# Altium footprint library Inductor_THT.PcbLib: 269 footprints (part 5 of 17)
Each footprint in its own frame and in the unit in brackets; x right, y up, seen from the top. Pads: shape width x height; smd on the part's side, far side on the other; paste and mask are expansions set on the pad; w line width, h text height; cw(c..) or ccw(c..) is an arc to the next point about the centre after c.
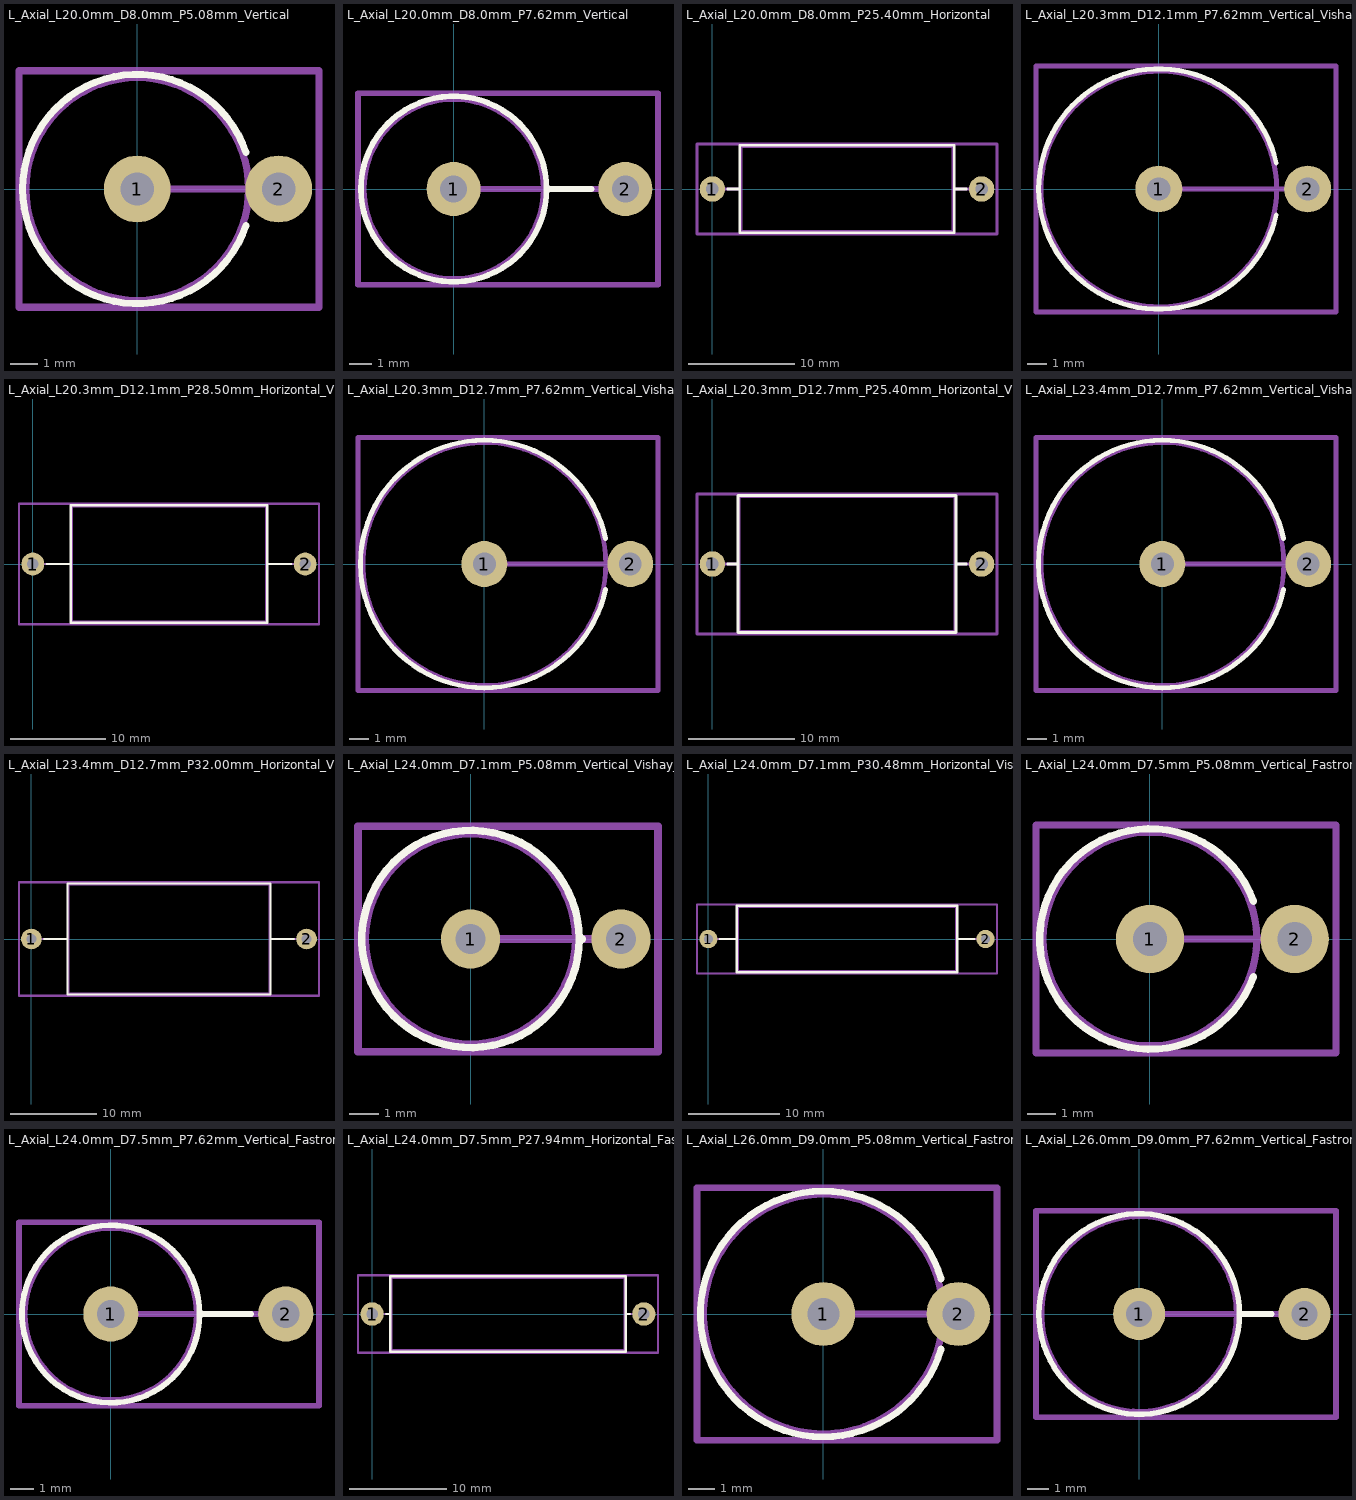
[diagram p4: the footprints below, top view; thin cyan lines are the x and y axes]

## L_Axial_L20.0mm_D8.0mm_P5.08mm_Vertical [mm]
pads (2):
  round 2.4 hole 1.2: 1(0,0) 2(5.08,0)
F.SilkS:
  lines w0.254: 3.903,-1.32 cw(c0,0) 3.903,1.32
Top Assembly:
  circle w0.254: c0,0 r4
  lines w0.254: 0,0 5.08,0
  text "'.Designator'" at -4.047,0.86 h1
Top Courtyard:
  lines w0.254: -4.25,-4.25 6.53,-4.25 6.53,4.25 -4.25,4.25 -4.25,-4.25
Top Designator:
  text ".Designator" at -6.478,-0.508 h1.52
3D body "L_Axial_L20.0mm_D8.0mm_P5.08mm_Vertical.step": height 23.25, standoff -3, extent -4,-4 5.526,4

## L_Axial_L20.0mm_D8.0mm_P7.62mm_Vertical [mm]
pads (2):
  round 2.4 hole 1.2: 1(0,0) 2(7.62,0)
F.SilkS:
  circle w0.254: c0,0 r4.12
  lines w0.254: 4.12,0 6.12,0
Top Assembly:
  circle w0.254: c0,0 r4
  lines w0.254: 0,0 7.62,0
  text "'.Designator'" at -4.047,0.86 h1
Top Courtyard:
  lines w0.254: -4.25,-4.25 9.07,-4.25 9.07,4.25 -4.25,4.25 -4.25,-4.25
Top Designator:
  text ".Designator" at -5.208,-0.508 h1.52
3D body "L_Axial_L20.0mm_D8.0mm_P7.62mm_Vertical.step": height 23.25, standoff -3, extent -4,-4 8.066,4

## L_Axial_L20.0mm_D8.0mm_P25.40mm_Horizontal [mm]
pads (2):
  round 2.4 hole 1.2: 1(0,0) 2(25.4,0)
F.SilkS:
  lines w0.254: 1.44,0 2.58,0 ; 22.82,0 23.96,0 ; 2.58,-4.12 22.82,-4.12 22.82,4.12 2.58,4.12 2.58,-4.12
Top Assembly:
  lines w0.254: 0,0 2.7,0 ; 22.7,0 25.4,0 ; 2.7,-4 22.7,-4 22.7,4 2.7,4 2.7,-4
  text "'.Designator'" at 8.653,-0.84 h1
Top Courtyard:
  lines w0.254: -1.45,-4.25 26.85,-4.25 26.85,4.25 -1.45,4.25 -1.45,-4.25
Top Designator:
  text ".Designator" at 5.082,-0.508 h1.52
3D body "L_Axial_L20.0mm_D8.0mm_P25.40mm_Horizontal.step": height 8.1, standoff -3, extent -0.446,-4 25.846,4

## L_Axial_L20.3mm_D12.1mm_P7.62mm_Vertical_Vishay_IHA-101 [mm]
pads (2):
  round 2.4 hole 1.2: 1(0,0) 2(7.62,0)
F.SilkS:
  lines w0.254: 6.012,-1.32 cw(c0,0) 6.012,1.32
Top Assembly:
  circle w0.254: c0,0 r6.035
  lines w0.254: 0,0 7.62,0
  text "'.Designator'" at -4.047,0.86 h1
Top Courtyard:
  lines w0.254: -6.29,-6.29 -6.29,6.29 9.07,6.29 9.07,-6.29 -6.29,-6.29
Top Designator:
  text ".Designator" at -6.228,-0.508 h1.52

## L_Axial_L20.3mm_D12.1mm_P28.50mm_Horizontal_Vishay_IHA-101 [mm]
pads (2):
  round 2.4 hole 1.2: 1(0,0) 2(28.5,0)
F.SilkS:
  lines w0.254: 1.44,0 3.97,0 ; 24.53,0 27.06,0 ; 3.97,-6.155 24.53,-6.155 24.53,6.155 3.97,6.155 3.97,-6.155
Top Assembly:
  lines w0.254: 0,0 4.09,0 ; 24.41,0 28.5,0 ; 4.09,-6.035 24.41,-6.035 24.41,6.035 4.09,6.035 4.09,-6.035
  text "'.Designator'" at 10.203,-0.84 h1
Top Courtyard:
  lines w0.254: -1.45,-6.29 29.95,-6.29 29.95,6.29 -1.45,6.29 -1.45,-6.29
Top Designator:
  text ".Designator" at 6.632,-0.508 h1.52

## L_Axial_L20.3mm_D12.7mm_P7.62mm_Vertical_Vishay_IHA-201 [mm]
pads (2):
  round 2.4 hole 1.2: 1(0,0) 2(7.62,0)
F.SilkS:
  lines w0.254: 6.334,-1.32 cw(c0,0) 6.334,1.32
Top Assembly:
  circle w0.254: c0,0 r6.35
  lines w0.254: 0,0 7.62,0
  text "'.Designator'" at -4.047,0.86 h1
Top Courtyard:
  lines w0.254: -6.6,-6.6 9.07,-6.6 9.07,6.6 -6.6,6.6 -6.6,-6.6
Top Designator:
  text ".Designator" at -6.383,-0.508 h1.52

## L_Axial_L20.3mm_D12.7mm_P25.40mm_Horizontal_Vishay_IHA-201 [mm]
pads (2):
  round 2.4 hole 1.2: 1(0,0) 2(25.4,0)
F.SilkS:
  lines w0.254: 1.44,0 2.42,0 ; 22.98,0 23.96,0 ; 2.42,-6.47 22.98,-6.47 22.98,6.47 2.42,6.47 2.42,-6.47
Top Assembly:
  lines w0.254: 0,0 2.54,0 ; 22.86,0 25.4,0 ; 2.54,-6.35 22.86,-6.35 22.86,6.35 2.54,6.35 2.54,-6.35
  text "'.Designator'" at 8.653,-0.84 h1
Top Courtyard:
  lines w0.254: -1.45,-6.6 26.85,-6.6 26.85,6.6 -1.45,6.6 -1.45,-6.6
Top Designator:
  text ".Designator" at 5.082,-0.508 h1.52

## L_Axial_L23.4mm_D12.7mm_P7.62mm_Vertical_Vishay_IHA-203 [mm]
pads (2):
  round 2.4 hole 1.2: 1(0,0) 2(7.62,0)
F.SilkS:
  lines w0.254: 6.334,-1.32 cw(c0,0) 6.334,1.32
Top Assembly:
  circle w0.254: c0,0 r6.35
  lines w0.254: 0,0 7.62,0
  text "'.Designator'" at -4.047,0.86 h1
Top Courtyard:
  lines w0.254: -6.6,-6.6 9.07,-6.6 9.07,6.6 -6.6,6.6 -6.6,-6.6
Top Designator:
  text ".Designator" at -6.383,-0.508 h1.52

## L_Axial_L23.4mm_D12.7mm_P32.00mm_Horizontal_Vishay_IHA-203 [mm]
pads (2):
  round 2.4 hole 1.2: 1(0,0) 2(32,0)
F.SilkS:
  lines w0.254: 1.44,0 4.195,0 ; 27.805,0 30.56,0 ; 4.195,-6.47 4.195,6.47 27.805,6.47 27.805,-6.47 4.195,-6.47
Top Assembly:
  lines w0.254: 0,0 4.315,0 ; 27.685,0 32,0 ; 4.315,-6.35 4.315,6.35 27.685,6.35 27.685,-6.35 4.315,-6.35
  text "'.Designator'" at 11.953,-0.84 h1
Top Courtyard:
  lines w0.254: -1.45,-6.6 -1.45,6.6 33.45,6.6 33.45,-6.6 -1.45,-6.6
Top Designator:
  text ".Designator" at 8.382,-0.508 h1.52

## L_Axial_L24.0mm_D7.1mm_P5.08mm_Vertical_Vishay_IM-10-28 [mm]
pads (2):
  round 2 hole 1: 1(0,0) 2(5.08,0)
F.SilkS:
  circle w0.254: c0,0 r3.67
  lines w0.254: 3.67,0 3.78,0
Top Assembly:
  circle w0.254: c0,0 r3.55
  lines w0.254: 0,0 5.08,0
  text "'.Designator'" at -4.047,0.66 h1
Top Courtyard:
  lines w0.254: -3.8,-3.8 6.33,-3.8 6.33,3.8 -3.8,3.8 -3.8,-3.8
Top Designator:
  text ".Designator" at -6.487,-0.508 h1.52
3D body "L_Axial_L24.0mm_D7.1mm_P5.08mm_Vertical_Vishay_IM-10-28.step": height 26.55, standoff -3, extent -3.55,-3.55 5.427,3.55

## L_Axial_L24.0mm_D7.1mm_P30.48mm_Horizontal_Vishay_IM-10-28 [mm]
pads (2):
  round 2 hole 1: 1(0,0) 2(30.48,0)
F.SilkS:
  lines w0.254: 1.24,0 3.12,0 ; 27.36,0 29.24,0 ; 3.12,-3.67 27.36,-3.67 27.36,3.67 3.12,3.67 3.12,-3.67
Top Assembly:
  lines w0.254: 0,0 3.24,0 ; 27.24,0 30.48,0 ; 3.24,-3.55 27.24,-3.55 27.24,3.55 3.24,3.55 3.24,-3.55
  text "'.Designator'" at 11.193,-0.84 h1
Top Courtyard:
  lines w0.254: -1.25,-3.8 31.74,-3.8 31.74,3.8 -1.25,3.8 -1.25,-3.8
Top Designator:
  text ".Designator" at 7.627,-0.508 h1.52
3D body "L_Axial_L24.0mm_D7.1mm_P30.48mm_Horizontal_Vishay_IM-10-28.step": height 7.2, standoff -3, extent -0.347,-3.546 30.827,3.546

## L_Axial_L24.0mm_D7.5mm_P5.08mm_Vertical_Fastron_MESC [mm]
pads (2):
  round 2.4 hole 1.2: 1(0,0) 2(5.08,0)
F.SilkS:
  lines w0.254: 3.638,-1.32 cw(c0,0) 3.638,1.32
Top Assembly:
  circle w0.254: c0,0 r3.75
  lines w0.254: 0,0 5.08,0
  text "'.Designator'" at -4.047,0.86 h1
Top Courtyard:
  lines w0.254: -4,-4 6.53,-4 6.53,4 -4,4 -4,-4
Top Designator:
  text ".Designator" at -6.387,-0.508 h1.52
3D body "L_Axial_L24.0mm_D7.5mm_P5.08mm_Vertical_Fastron_MESC.step": height 27.25, standoff -3, extent -3.75,-3.75 5.526,3.75

## L_Axial_L24.0mm_D7.5mm_P7.62mm_Vertical_Fastron_MESC [mm]
pads (2):
  round 2.4 hole 1.2: 1(0,0) 2(7.62,0)
F.SilkS:
  circle w0.254: c0,0 r3.87
  lines w0.254: 3.87,0 6.12,0
Top Assembly:
  circle w0.254: c0,0 r3.75
  lines w0.254: 0,0 7.62,0
  text "'.Designator'" at -4.047,0.86 h1
Top Courtyard:
  lines w0.254: -4,-4 9.07,-4 9.07,4 -4,4 -4,-4
Top Designator:
  text ".Designator" at -5.117,-0.508 h1.52
3D body "L_Axial_L24.0mm_D7.5mm_P7.62mm_Vertical_Fastron_MESC.step": height 27.25, standoff -3, extent -3.75,-3.75 8.066,3.75

## L_Axial_L24.0mm_D7.5mm_P27.94mm_Horizontal_Fastron_MESC [mm]
pads (2):
  round 2.4 hole 1.2: 1(0,0) 2(27.94,0)
F.SilkS:
  lines w0.254: 1.44,0 1.85,0 ; 26.09,0 26.5,0 ; 1.85,-3.87 26.09,-3.87 26.09,3.87 1.85,3.87 1.85,-3.87
Top Assembly:
  lines w0.254: 0,0 1.97,0 ; 25.97,0 27.94,0 ; 1.97,-3.75 25.97,-3.75 25.97,3.75 1.97,3.75 1.97,-3.75
  text "'.Designator'" at 9.923,-0.84 h1
Top Courtyard:
  lines w0.254: -1.45,-4 29.39,-4 29.39,4 -1.45,4 -1.45,-4
Top Designator:
  text ".Designator" at 6.352,-0.508 h1.52
3D body "L_Axial_L24.0mm_D7.5mm_P27.94mm_Horizontal_Fastron_MESC.step": height 7.6, standoff -3, extent -0.446,-3.746 28.386,3.746

## L_Axial_L26.0mm_D9.0mm_P5.08mm_Vertical_Fastron_77A [mm]
pads (2):
  round 2.4 hole 1.2: 1(0,0) 2(5.08,0)
F.SilkS:
  lines w0.254: 4.427,-1.32 cw(c0,0) 4.427,1.32
Top Assembly:
  circle w0.254: c0,0 r4.5
  lines w0.254: 0,0 5.08,0
  text "'.Designator'" at -4.047,0.86 h1
Top Courtyard:
  lines w0.254: -4.75,-4.75 6.53,-4.75 6.53,4.75 -4.75,4.75 -4.75,-4.75
Top Designator:
  text ".Designator" at -6.728,-0.508 h1.52
3D body "L_Axial_L26.0mm_D9.0mm_P5.08mm_Vertical_Fastron_77A.step": height 29.25, standoff -3, extent -4.5,-4.496 5.526,4.496

## L_Axial_L26.0mm_D9.0mm_P7.62mm_Vertical_Fastron_77A [mm]
pads (2):
  round 2.4 hole 1.2: 1(0,0) 2(7.62,0)
F.SilkS:
  circle w0.254: c0,0 r4.62
  lines w0.254: 4.62,0 6.12,0
Top Assembly:
  circle w0.254: c0,0 r4.5
  lines w0.254: 0,0 7.62,0
  text "'.Designator'" at -4.047,0.86 h1
Top Courtyard:
  lines w0.254: -4.75,-4.75 9.07,-4.75 9.07,4.75 -4.75,4.75 -4.75,-4.75
Top Designator:
  text ".Designator" at -5.458,-0.508 h1.52
3D body "L_Axial_L26.0mm_D9.0mm_P7.62mm_Vertical_Fastron_77A.step": height 29.25, standoff -3, extent -4.5,-4.496 8.066,4.496